# Altium schematic symbol library MISC_MECH_PART.Schlib: 1 symbol
Pins are listed as number, name and electrical type; pins without a type are passive.

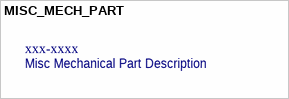
[diagram p0: symbol MISC_MECH_PART]

## MISC_MECH_PART
designator *, comment Misc Mechanical Part Description  CMW P/N: xxx-xxxx  (mechanical)
Misc. Mechanical Part Description